# Altium schematic symbol library 2111-2-00-44-00-00-07-0.SchLib: 1 symbol
Pins are listed as number, name and electrical type; pins without a type are passive.

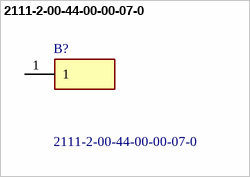
[diagram p0: symbol 2111-2-00-44-00-00-07-0]

## 2111-2-00-44-00-00-07-0
designator B?
Circuit Board Hardware - PCB 300u AG OVER CU; Manufacturer_Name: Mill-Max; Geometry.Height: 2.1336mm; Mouser Part Number: 575-2111200440000; Mouser Price/Stock: https://www.mouser.co.uk/ProductDetail/Mill-Max/2111-2-00-44-00-00-07-0?qs=utEmeSDTw24MVvI2pdqz7g%3D%3D; Manufacturer_Part_Number: 2111-2-00-44-00-00-07-0; Datasheet Link: https://www.mouser.fr/datasheet/2/273/MMMC_S_A0000306504_1-2553123.pdf
footprint 2111200440000070
pins: 1